# Altium footprint library Capacitors SMD.PcbLib: 115 footprints (part 8 of 8)
Each footprint in its own frame and in the unit in brackets; x right, y up, seen from the top. Pads: shape width x height; smd on the part's side, far side on the other; paste and mask are expansions set on the pad; w line width, h text height; cw(c..) or ccw(c..) is an arc to the next point about the centre after c.
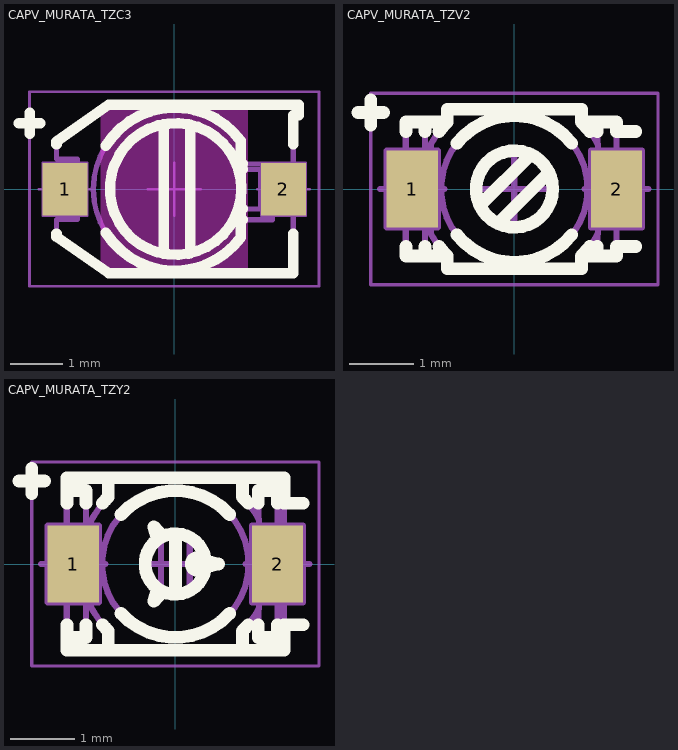
[diagram p7: the footprints below, top view; thin cyan lines are the x and y axes]

## CAPV_MURATA_TZC3 [mm] "MURATA TZC3 Serie, Ceramic Trimmer Capacitor, Body 3.2 x 4.5mm"
height 1.6
pads (2):
  rect 0.85x1 smd: 1(-2.075,0) 2(2.075,0)
Top Layer keep-out:
  rectangle: -1.4,-1.5 1.4,1.5
Top Overlay:
  circle w0.2: c0.026,0.005 r1.25
  lines w0.2: -2.95,1.254 -2.75,1.254 ; -2.75,1.054 -2.75,1.254 ; -2.75,1.454 -2.75,1.254 ; -2.55,1.254 -2.75,1.254 ; -2.238,-0.85 -2.238,-0.905 -1.242,-1.597 2.262,-1.597 2.262,-0.85 ; -2.238,0.85 -2.238,0.905 -1.247,1.603 2.362,1.603 2.362,1.403 2.262,1.403 2.262,0.85 ; -1.3,-0.825 ccw(c0.012,0) 1.262,-0.917 1.262,-0.177 ; -1.3,0.825 cw(c0.012,0) 1.262,0.917 1.262,0.187 ; -0.201,-1.224 -0.201,1.235 ; 0.299,-1.214 0.299,1.225 ; 1.262,-0.58 1.3,-0.58 ; 1.262,-0.375 1.3,-0.375 ; 1.262,0.375 1.3,0.375 ; 1.262,0.48 1.3,0.48
Mechanical 8:
  lines w0.05: -2.575,0 -2.075,0 ; -2.075,-0.5 -2.075,0 ; -2.075,0.5 -2.075,0 ; -1.575,0 -2.075,0 ; -0.5,0 0,0 ; 0,-0.5 0,0 ; 0,0.5 0,0 ; 0.5,0 0,0 ; 1.575,0 2.075,0 ; 2.075,-0.5 2.075,0 ; 2.075,0.5 2.075,0 ; 2.575,0 2.075,0 ; -2.5,-0.5 -1.65,-0.5 -1.65,0.5 -2.5,0.5 -2.5,-0.5 ; 1.65,-0.5 1.65,0.5 2.5,0.5 2.5,-0.5 1.65,-0.5
Mechanical 14:
  circle w0.1: c0.026,0.005 r1.25
  lines w0.1: -2.95,1.254 -2.75,1.254 ; -2.75,1.054 -2.75,1.254 ; -2.75,1.454 -2.75,1.254 ; -2.55,1.254 -2.75,1.254 ; -1.837,-0.375 -2.238,-0.375 -2.238,0.375 -1.837,0.375 ; -0.201,-1.224 -0.201,1.235 ; 0.299,-1.214 0.299,1.225 ; 1.262,-0.58 1.863,-0.58 1.863,-0.48 2.262,-0.48 2.262,-1.597 -1.242,-1.597 -2.238,-0.905 -2.238,-0.575 -1.837,-0.575 -1.837,0.575 -2.238,0.575 -2.238,0.905 -1.247,1.603 2.362,1.603 2.362,1.403 2.262,1.403 2.262,0.48 1.262,0.48 ; 1.262,-0.375 2.238,-0.375 2.238,0.375 1.262,0.375 ; 1.262,-0.177 1.262,-0.917 cw(c0.012,0) 1.262,0.917 1.262,0.187 ; 1.637,-0.375 1.637,0.375
Mechanical 15:
  lines w0.05: -2.75,-1.847 -2.75,1.853 2.75,1.853 2.75,-1.847 -2.75,-1.847
3D body "CAPV_MURATA_TZC3.stp": height 1.6, standoff 0, extent -2.237,-1.596 2.363,1.604

## CAPV_MURATA_TZV2 [mm] "MURATA TZV2 Serie, Ceramic Trimmer Capacitor, Body 2.3 x 3.2mm"
height 1.45
pads (2):
  rect 0.8x1.2 smd: 1(-1.6,0) 2(1.6,0)
Top Overlay:
  circle w0.2: c0,0 r0.6
  lines w0.2: -2.45,1.2 -2.25,1.2 ; -2.25,1 -2.25,1.2 ; -2.25,1.4 -2.25,1.2 ; -2.05,1.2 -2.25,1.2 ; -1.7,-0.9 -1.7,-1.05 -1.05,-1.05 ; -1.7,0.9 -1.7,1.05 -1.05,1.05 ; -1.4,-1.05 -1.4,-0.9 ; -1.4,0.9 -1.4,1.05 ; -1.181,-0.9 ccw(c0,0) -1.05,-1.05 ; -1.181,0.9 cw(c0,0) -1.05,1.05 ; -0.9,-0.716 ccw(c0,0) 0.9,-0.716 ; -0.9,0.716 cw(c0,0) 0.9,0.716 ; -0.541,-0.259 0.259,0.541 ; -0.259,-0.541 0.541,0.259 ; 1.181,-0.9 cw(c0,0) 1.05,-1.05 ; 1.181,0.9 ccw(c0,0) 1.05,1.05 ; 1.3,-1.05 1.3,-0.9 ; 1.3,0.9 1.3,1.05 ; 1.9,-0.9 1.6,-0.9 1.6,-1.05 1.05,-1.05 ; 1.9,0.9 1.6,0.9 1.6,1.05 1.05,1.05 ; -1.05,-1.05 -1.05,-1.25 1.05,-1.25 1.05,-1.05 ; -1.05,1.05 -1.05,1.25 1.05,1.25 1.05,1.05
Mechanical 8:
  lines w0.1: -2.1,0 -1.6,0 ; -1.6,-0.5 -1.6,0 ; -1.6,0.5 -1.6,0 ; -1.1,0 -1.6,0 ; -0.5,0 0,0 ; 0,-0.5 0,0 ; 0,0.5 0,0 ; 0.5,0 0,0 ; 1.1,0 1.6,0 ; 1.6,-0.5 1.6,0 ; 1.6,0.5 1.6,0 ; 2.1,0 1.6,0 ; -2,-0.6 -2,0.6 -1.2,0.6 -1.2,-0.6 -2,-0.6 ; 1.2,-0.6 2,-0.6 2,0.6 1.2,0.6 1.2,-0.6
Mechanical 14:
  circle w0.1: c0,0 r1.15
  circle w0.1: c0,0 r0.6
  lines w0.1: -2.45,1.2 -2.25,1.2 ; -2.25,1 -2.25,1.2 ; -2.25,1.4 -2.25,1.2 ; -2.05,1.2 -2.25,1.2 ; -1.4,-1.05 -1.4,1.05 ; -0.541,-0.259 0.259,0.541 ; -0.259,-0.541 0.541,0.259 ; 1.3,-1.05 1.3,-0.718 ; 1.3,0.718 1.3,1.05 ; 1.6,-0.55 1.6,-1.05 1.05,-1.05 ; 1.6,0.55 1.6,1.05 1.05,1.05 ; -1.05,-1.05 cw(c0,0) -1.31,-0.7 -1.31,0.7 cw(c0,0) -1.05,1.05 ; -1.05,-1.05 -1.05,-1.25 1.05,-1.25 1.05,-1.05 ; -1.05,-1.05 -1.7,-1.05 -1.7,1.05 -1.05,1.05 ; -1.05,1.05 -1.05,1.25 1.05,1.25 1.05,1.05 ; 1.05,-1.05 ccw(c0,0) 1.31,-0.7 1.31,-0.55 1.7,-0.55 1.7,0.55 1.31,0.55 1.31,0.7 ccw(c0,0) 1.05,1.05
Mechanical 15:
  lines w0.05: -2.25,-1.5 2.25,-1.5 2.25,1.5 -2.25,1.5 -2.25,-1.5
3D body "CAPV_MURATA_TZV2.stp": height 1.45, standoff 0, extent -1.7,-1.25 1.7,1.25

## CAPV_MURATA_TZY2 [mm] "MURATA TZY2 Serie, Ceramic Trimmer Capacitor, Body 2.5 x 3.2mm"
height 1.25
pads (2):
  rect 0.8x1.2 smd: 1(-1.6,0) 2(1.6,0)
Top Overlay:
  circle w0.2: c0,0 r0.475
  circle w0.2: c0.35,0 r0.1
  lines w0.2: -2.45,1.3 -2.25,1.3 ; -2.25,1.1 -2.25,1.3 ; -2.25,1.5 -2.25,1.3 ; -2.05,1.3 -2.25,1.3 ; -1.7,-1.15 -1.4,-1.15 -1.4,-0.95 ; -1.7,-0.95 -1.7,-1.35 1.7,-1.35 1.7,-0.95 2,-0.95 ; -1.7,0.95 -1.7,1.35 1.7,1.35 1.7,0.95 2,0.95 ; -1.7,1.15 -1.4,1.15 -1.4,0.95 ; -1.141,-0.95 ccw(c0,0) -1.05,-1.05 -1.05,-1.35 ; -1.141,0.95 cw(c0,0) -1.05,1.05 -1.05,1.35 ; -0.85,-0.775 ccw(c0,0) 0.85,-0.775 ; -0.85,0.775 cw(c0,0) 0.85,0.775 ; -0.279,-0.384 -0.337,-0.585 -0.193,-0.434 ; -0.279,0.384 -0.337,0.585 -0.193,0.434 ; 0,-0.418 0,0.418 ; 0.472,-0.05 0.675,0 0.472,0.05 ; 1.05,-1.35 1.05,-1.05 ccw(c0,0) 1.141,-0.95 ; 1.05,1.15 1.05,1.05 ; 1.05,1.35 1.05,1.05 ; 1.141,0.95 ccw(c0,0) 1.05,1.05 ; 1.3,-0.95 1.3,-1.15 1.6,-1.15 1.6,-0.95 ; 1.3,0.95 1.3,1.15 1.6,1.15 1.6,0.95
Mechanical 8:
  lines w0.1: -2.1,0 -1.6,0 ; -1.6,-0.5 -1.6,0 ; -1.6,0.5 -1.6,0 ; -1.1,0 -1.6,0 ; -0.5,0 0,0 ; 0,-0.5 0,0 ; 0,0.5 0,0 ; 0.5,0 0,0 ; 1.1,0 1.6,0 ; 1.6,-0.5 1.6,0 ; 1.6,0.5 1.6,0 ; 2.1,0 1.6,0 ; -2,-0.6 -2,0.6 -1.2,0.6 -1.2,-0.6 -2,-0.6 ; 1.2,-0.6 1.2,0.6 2,0.6 2,-0.6 1.2,-0.6
Mechanical 14:
  circle w0.1: c0,0 r0.475
  circle w0.1: c0,0 r1.15
  circle w0.1: c0.35,0 r0.1
  lines w0.1: -2.45,1.3 -2.25,1.3 ; -2.25,1.1 -2.25,1.3 ; -2.25,1.5 -2.25,1.3 ; -2.05,1.3 -2.25,1.3 ; -1.7,-1.15 -1.4,-1.15 -1.4,-0.495 ; -1.7,1.15 -1.4,1.15 -1.4,0.495 ; -1.05,-1.35 -1.05,-1.05 cw(c0,0) -1.05,1.05 -1.05,1.35 ; -0.279,-0.384 -0.337,-0.585 -0.193,-0.434 ; -0.279,0.384 -0.337,0.585 -0.193,0.434 ; -0.225,-0.418 -0.225,0.418 ; 0.225,-0.418 0.225,0.418 ; 0.472,-0.05 0.675,0 0.472,0.05 ; 1.05,-1.35 1.05,-1.05 ccw(c0,0) 1.31,-0.7 1.31,-0.55 1.7,-0.55 ; 1.05,1.15 1.05,1.05 ; 1.05,1.35 1.05,1.05 ; 1.3,-0.718 1.3,-1.15 1.6,-1.15 1.6,-0.55 ; 1.3,0.718 1.3,1.15 1.6,1.15 1.6,0.55 ; 1.7,0.55 1.31,0.55 1.31,0.7 ccw(c0,0) 1.05,1.05 ; -1.7,-1.35 1.7,-1.35 1.7,1.35 -1.7,1.35 -1.7,-1.35
Mechanical 15:
  lines w0.05: -2.25,-1.6 2.25,-1.6 2.25,1.6 -2.25,1.6 -2.25,-1.6
3D body "CAPV_MURATA_TZY2.stp": height 1.25, standoff 0, extent -1.7,-1.35 1.7,1.35